# EAGLE library part TEMPLATE_FEATHER (library voltera_EAGLE_community_lib)
Feather Template (Compatible with Argon)
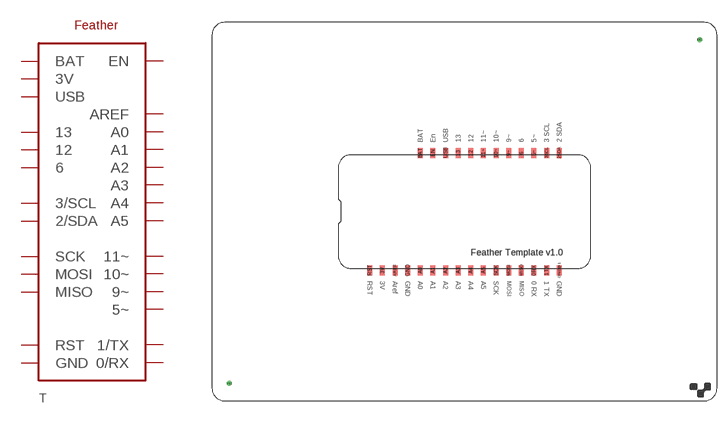
[diagram p8: symbol with the pads of FEATHER; footprint FEATHER]

Designator prefix T

## TEMPLATE_FEATHER  [FEATHER]
0RX  0/RX
1TX  1/TX
2SDA  2/SDA
3SCL  3/SCL
3V  3V
5~  5~
6  6
9~  9~
10~  10~
11~  11~
12  12
13  13
A0  A0
A1  A1
A2  A2
A3  A3
A4  A4
A5  A5
AREF  AREF
BAT  BAT
EN  EN
GND  GND
GND@1  GND
MISO  MISO
MOSI  MOSI
RST  RST
SCK  SCK
USB  USB

## Footprint FEATHER (pad centres in mm)
smd 1.016 x 2.032: 0RX 64.77,26.289; 1TX 67.31,26.289; 2SDA 69.85,49.93; 3SCL 67.31,49.93; 3V 34.29,26.289; 5~ 64.77,49.93; 6 62.23,49.93; 9~ 59.69,49.93; 10~ 57.15,49.93; 11~ 54.61,49.93; 12 52.07,49.93; 13 49.53,49.93; A0 41.91,26.289; A1 44.45,26.289; A2 46.99,26.289; A3 49.53,26.289; A4 52.07,26.289; A5 54.61,26.289; AREF 36.83,26.289; BAT 41.91,49.93; EN 44.45,49.93; GND 39.37,26.289; GND@1 69.85,26.289; MISO 62.23,26.289; MOSI 59.69,26.289; RST 31.75,26.289; SCK 57.15,26.289; USB 46.99,49.93
drill 0.3 pad 1: P$1 3.5,3.5; P$2 98.1,72.7